# EAGLE library part ER-OLED0.91-2 (library SKAARHOJ)
UG-2864HSWEG01 OLED display Both 1.3" and 0.96" models share the same FPC tab footprint, only the screen dimensions vary.
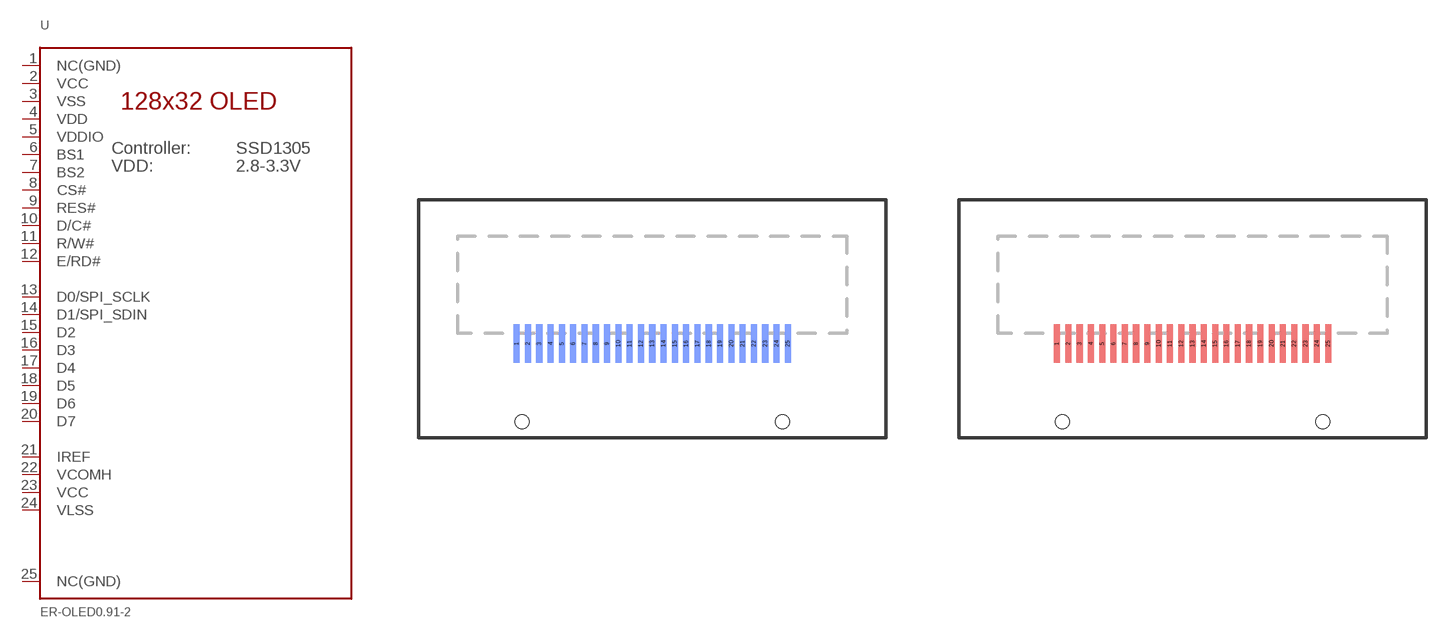
[diagram p21: symbol with the pads of ER-OLED0.91-2_WRAPAROUND; footprints ER-OLED0.91-2_WRAPAROUND, ER_OLED0.91-2]

Designator prefix U

## ER-OLED0.91-2  [ER-OLED0.91-2_WRAPAROUND]
1  NC(GND)  in
2  VCC  pwr
3  VSS  pwr
4  VDD  pwr
5  VDDIO  pwr
6  BS1  in
7  BS2  in
8  CS#  in
9  RES#  in
10  D/C#  in
11  R/W#  in
12  E/RD#  in
13  D0/SPI_SCLK
14  D1/SPI_SDIN
15  D2
16  D3
17  D4
18  D5
19  D6
20  D7
21  IREF  in
22  VCOMH  out
23  VCC  pwr
24  VLSS  pwr
25  NC(GND)  in

## ER-OLED0.91-2TOP  [ER_OLED0.91-2]
Pads as for ER-OLED0.91-2_WRAPAROUND

## Footprint ER-OLED0.91-2_WRAPAROUND (pad centres in mm)
smd 0.35 x 2.2 bottom: 1 -7.8,-1.43; 2 -7.15,-1.43; 3 -6.5,-1.43; 4 -5.85,-1.43; 5 -5.2,-1.43; 6 -4.55,-1.43; 7 -3.9,-1.43; 8 -3.25,-1.43; 9 -2.6,-1.43; 10 -1.95,-1.43; 11 -1.3,-1.43; 12 -0.65,-1.43; 13 0,-1.43; 14 0.65,-1.43; 15 1.3,-1.43; 16 1.95,-1.43; 17 2.6,-1.43; 18 3.25,-1.43; 19 3.9,-1.43; 20 4.55,-1.43; 21 5.2,-1.43; 22 5.85,-1.43; 23 6.5,-1.43; 24 7.15,-1.43; 25 7.8,-1.43
hole 0.8 at -7.5,-5.93
hole 0.8 at 7.5,-5.93

## Footprint ER_OLED0.91-2 (pad centres in mm)
smd 0.35 x 2.2: 1 -7.8,-1.43; 2 -7.15,-1.43; 3 -6.5,-1.43; 4 -5.85,-1.43; 5 -5.2,-1.43; 6 -4.55,-1.43; 7 -3.9,-1.43; 8 -3.25,-1.43; 9 -2.6,-1.43; 10 -1.95,-1.43; 11 -1.3,-1.43; 12 -0.65,-1.43; 13 0,-1.43; 14 0.65,-1.43; 15 1.3,-1.43; 16 1.95,-1.43; 17 2.6,-1.43; 18 3.25,-1.43; 19 3.9,-1.43; 20 4.55,-1.43; 21 5.2,-1.43; 22 5.85,-1.43; 23 6.5,-1.43; 24 7.15,-1.43; 25 7.8,-1.43
hole 0.8 at -7.5,-5.93
hole 0.8 at 7.5,-5.93